# EAGLE library part PROMICRO_HEADER (library promicro_header)
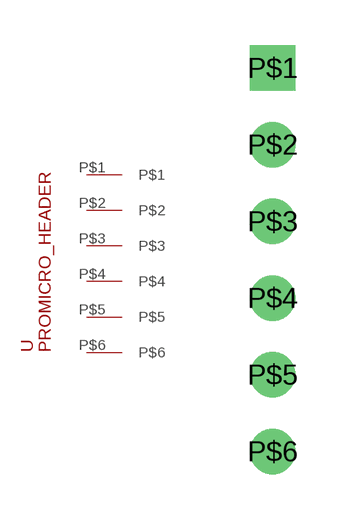
[diagram p0: symbol with the pads of PROMICRO_HEADER; footprint PROMICRO_HEADER]

Designator prefix -

## PROMICRO_HEADER  [PROMICRO_HEADER]
P$1  P$1
P$2  P$2
P$3  P$3
P$4  P$4
P$5  P$5
P$6  P$6

## Footprint PROMICRO_HEADER (pad centres in mm)
drill 1 square: P$1 0,6.35
drill 1: P$2 0,3.81; P$3 0,1.27; P$4 0,-1.27; P$5 0,-3.81; P$6 0,-6.35